# Altium integrated library National Semiconductor LDO.IntLib: 2675 symbols (part 3 of 65)
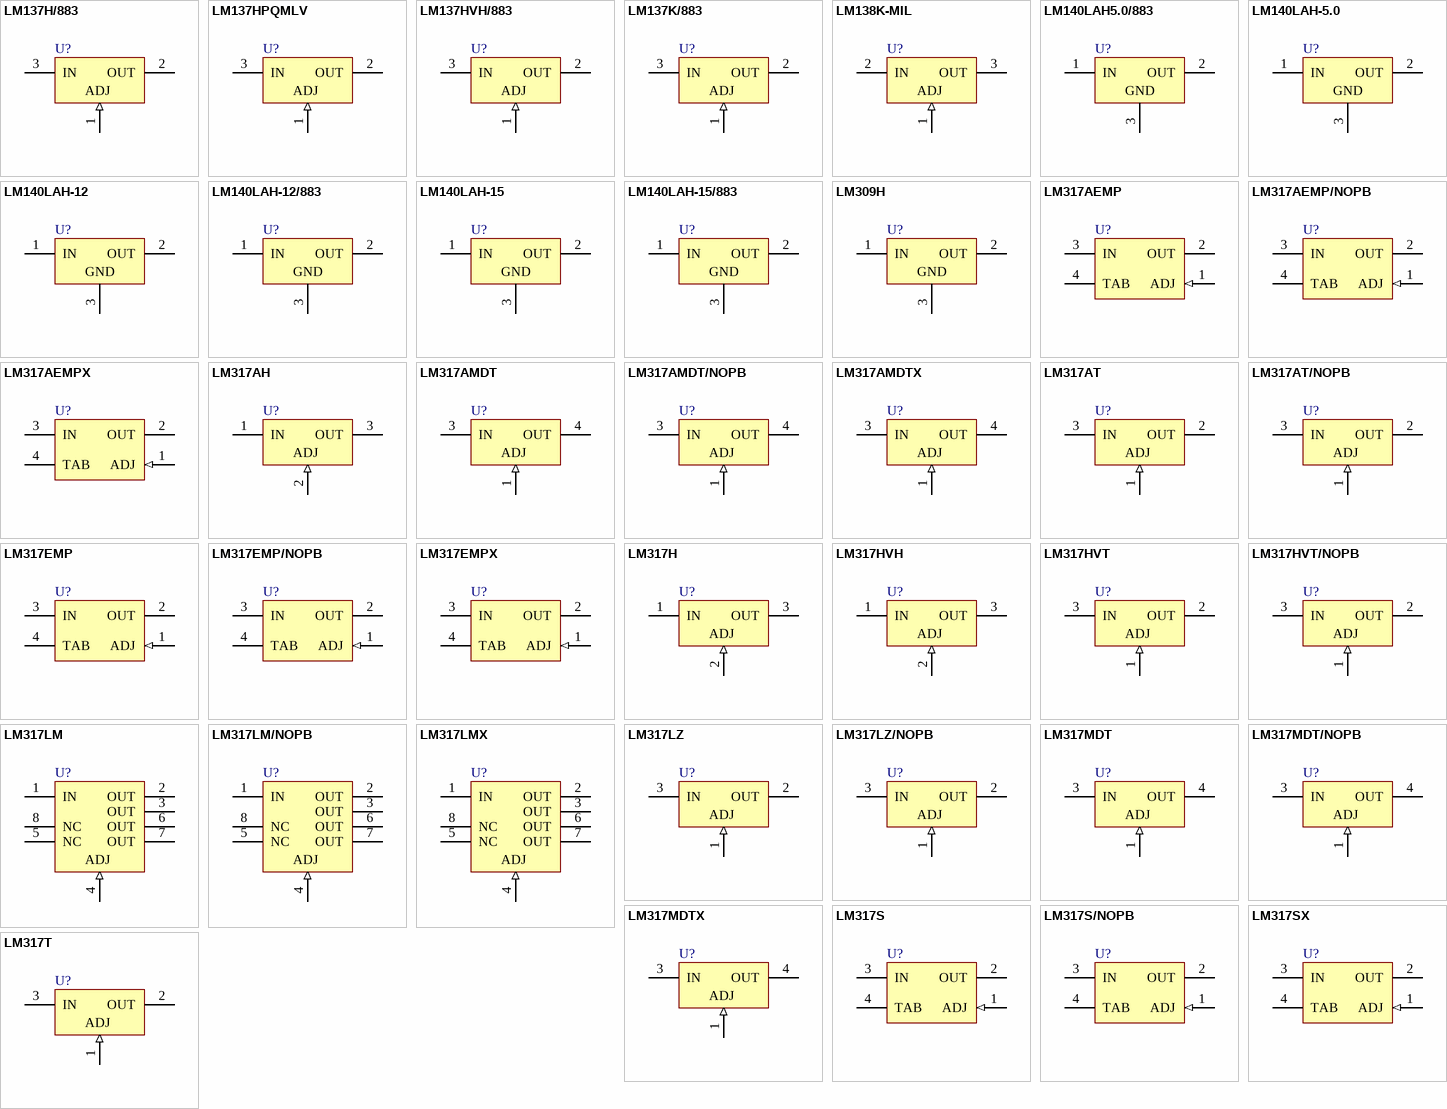
[diagram p69: symbols LM137H/883 to LM317T]

## LM317AMDT
designator U?
3-Terminal Adjustable Regulator, 3-pin TO-252; PartNumber: LM317AMDT; Manufacturer: National Semiconductor; PackageTopMarking: NSUZXYTT*LM317*AMDT; PowerWise: N; CompType: LDO IC; High-Reliability: Y; DatasheetVersion: Apr-2007; PackageVersion: revD, Feb-2009; PackageReference: TD03B; PackageDescription: TO252, Molded, Jedec, 6.8 x 6.10 x 2.30mm Body, 3 Lead, 2.28mm Pitch, Surface Mount; RoHS: N; PinCount: 3; Code_JEDEC: TO-252-AA; ComponentLink1Description: Manufacturer URL; ComponentLink1URL: http://www.national.com/; ComponentLink2Description: LM317 Datasheet; ComponentLink2URL: http://www.national.com/ds/LM/LM317.pdf; ComponentLink3Description: LM317 Web Page; ComponentLink3URL: http://www.national.com/pf/LM/LM317.html; ComponentLink4Description: TD03B Package Page; ComponentLink4URL: http://www.national.com/packaging/folders/td03b.html
footprint TD03B_N (D-PAK, 4-Leads, Body 6.1x6.6mm, Pitch 2.29mm, Lead Span 9.7mm, IPC Medium Density)
footprint TD03B_L (D-PAK, 4-Leads, Body 6.1x6.6mm, Pitch 2.29mm, Lead Span 9.7mm, IPC High Density)
footprint TD03B_M (D-PAK, 4-Leads, Body 6.1x6.6mm, Pitch 2.29mm, Lead Span 9.7mm, IPC Low Density)
pins: 1 ADJ (in), 3 IN (power), 4 OUT (power)

## LM317AMDT/NOPB
designator U?
3-Terminal Adjustable Regulator, 3-pin TO-252, Pb-Free; PartNumber: LM317AMDT/NOPB; Manufacturer: National Semiconductor; PackageTopMarking: NSUZXYTT*LM317*AMDT; PowerWise: N; CompType: LDO IC; High-Reliability: Y; DatasheetVersion: Apr-2007; PackageVersion: revD, Feb-2009; PackageReference: TD03B; PackageDescription: TO252, Molded, Jedec, 6.8 x 6.10 x 2.30mm Body, 3 Lead, 2.28mm Pitch, Surface Mount; RoHS: Y; PinCount: 3; Code_JEDEC: TO-252-AA; ComponentLink1Description: Manufacturer URL; ComponentLink1URL: http://www.national.com/; ComponentLink2Description: LM317 Datasheet; ComponentLink2URL: http://www.national.com/ds/LM/LM317.pdf; ComponentLink3Description: LM317 Web Page; ComponentLink3URL: http://www.national.com/pf/LM/LM317.html; ComponentLink4Description: TD03B Package Page; ComponentLink4URL: http://www.national.com/packaging/folders/td03b.html
footprint TD03B_N (D-PAK, 4-Leads, Body 6.1x6.6mm, Pitch 2.29mm, Lead Span 9.7mm, IPC Medium Density)
footprint TD03B_L (D-PAK, 4-Leads, Body 6.1x6.6mm, Pitch 2.29mm, Lead Span 9.7mm, IPC High Density)
footprint TD03B_M (D-PAK, 4-Leads, Body 6.1x6.6mm, Pitch 2.29mm, Lead Span 9.7mm, IPC Low Density)
pins: 1 ADJ (in), 3 IN (power), 4 OUT (power)

## LM317AMDTX
designator U?
3-Terminal Adjustable Regulator, 3-pin TO-252; PartNumber: LM317AMDTX; Manufacturer: National Semiconductor; PackageTopMarking: NSUZXYTT*LM317*AMDT; PowerWise: N; CompType: LDO IC; High-Reliability: Y; DatasheetVersion: Apr-2007; PackageVersion: revD, Feb-2009; PackageReference: TD03B; PackageDescription: TO252, Molded, Jedec, 6.8 x 6.10 x 2.30mm Body, 3 Lead, 2.28mm Pitch, Surface Mount; RoHS: N; PinCount: 3; Code_JEDEC: TO-252-AA; ComponentLink1Description: Manufacturer URL; ComponentLink1URL: http://www.national.com/; ComponentLink2Description: LM317 Datasheet; ComponentLink2URL: http://www.national.com/ds/LM/LM317.pdf; ComponentLink3Description: LM317 Web Page; ComponentLink3URL: http://www.national.com/pf/LM/LM317.html; ComponentLink4Description: TD03B Package Page; ComponentLink4URL: http://www.national.com/packaging/folders/td03b.html
footprint TD03B_N (D-PAK, 4-Leads, Body 6.1x6.6mm, Pitch 2.29mm, Lead Span 9.7mm, IPC Medium Density)
footprint TD03B_L (D-PAK, 4-Leads, Body 6.1x6.6mm, Pitch 2.29mm, Lead Span 9.7mm, IPC High Density)
footprint TD03B_M (D-PAK, 4-Leads, Body 6.1x6.6mm, Pitch 2.29mm, Lead Span 9.7mm, IPC Low Density)
pins: 1 ADJ (in), 3 IN (power), 4 OUT (power)

## LM317AT
designator U?
3-Terminal Adjustable Regulator, 3-pin TO-220; PartNumber: LM317AT; Manufacturer: National Semiconductor; PackageTopMarking: NSUZXYTTE#*LM317AT P+; PowerWise: N; CompType: LDO IC; High-Reliability: Y; DatasheetVersion: Apr-2007; PackageVersion: revL, Jan-1992; PackageReference: T03B; PackageDescription: TO-220, Molded, 3 Lead, Straight; RoHS: N; PinCount: 3; ComponentLink1Description: Manufacturer URL; ComponentLink1URL: http://www.national.com/; ComponentLink2Description: LM317 Datasheet; ComponentLink2URL: http://www.national.com/ds/LM/LM317.pdf; ComponentLink3Description: LM317 Web Page; ComponentLink3URL: http://www.national.com/pf/LM/LM317.html; ComponentLink4Description: T03B Package Page; ComponentLink4URL: http://www.national.com/packaging/folders/t03b.html
footprint T03B (TO, Thru-Hole, Vertical, Heatsink Mounted; 3 In-Line Leads; Pitch 2.54 mm)
pins: 1 ADJ (in), 2 OUT (power), 3 IN (power)

## LM317AT/NOPB
designator U?
3-Terminal Adjustable Regulator, 3-pin TO-220, Pb-Free; PartNumber: LM317AT/NOPB; Manufacturer: National Semiconductor; PackageTopMarking: NSUZXYTTE#*LM317AT P+; PowerWise: N; CompType: LDO IC; High-Reliability: Y; DatasheetVersion: Apr-2007; PackageVersion: revL, Jan-1992; PackageReference: T03B; PackageDescription: TO-220, Molded, 3 Lead, Straight; RoHS: Y; PinCount: 3; ComponentLink1Description: Manufacturer URL; ComponentLink1URL: http://www.national.com/; ComponentLink2Description: LM317 Datasheet; ComponentLink2URL: http://www.national.com/ds/LM/LM317.pdf; ComponentLink3Description: LM317 Web Page; ComponentLink3URL: http://www.national.com/pf/LM/LM317.html; ComponentLink4Description: T03B Package Page; ComponentLink4URL: http://www.national.com/packaging/folders/t03b.html
footprint T03B (TO, Thru-Hole, Vertical, Heatsink Mounted; 3 In-Line Leads; Pitch 2.54 mm)
pins: 1 ADJ (in), 2 OUT (power), 3 IN (power)

## LM317EMP
designator U?
3-Terminal Adjustable Regulator, 4-pin SOT-223; PartNumber: LM317EMP; Manufacturer: National Semiconductor; PackageTopMarking: XYTT*N01A; PowerWise: N; CompType: LDO IC; High-Reliability: Y; DatasheetVersion: Apr-2007; PackageVersion: revB, Apr-2003; PackageReference: MP04A; PackageDescription: Molded SOT-223, 6.50 x 3.56 x 1.6mm Body, 4 Lead, 2.3mm Pitch; RoHS: N; PinCount: 4; Code_JEDEC: TO-261-AA; Code_IPC: SOT223-4; ComponentLink1Description: Manufacturer URL; ComponentLink1URL: http://www.national.com/; ComponentLink2Description: LM317 Datasheet; ComponentLink2URL: http://www.national.com/ds/LM/LM317.pdf; ComponentLink3Description: LM317 Web Page; ComponentLink3URL: http://www.national.com/pf/LM/LM317.html; ComponentLink4Description: MP04A Package Page; ComponentLink4URL: http://www.national.com/packaging/folders/mp04a.html
footprint MP04A_N (SOT223, 4-Leads, Body 6.5x3.5mm, Pitch 2.3mm, Lead Span 7mm, IPC Medium Density)
footprint MP04A_L (SOT223, 4-Leads, Body 6.5x3.5mm, Pitch 2.3mm, Lead Span 7mm, IPC High Density)
footprint MP04A_M (SOT223, 4-Leads, Body 6.5x3.5mm, Pitch 2.3mm, Lead Span 7mm, IPC Low Density)
pins: 1 ADJ (in), 2 OUT (power), 3 IN (power), 4 TAB (power)

## LM317EMP/NOPB
designator U?
3-Terminal Adjustable Regulator, 4-pin SOT-223, Pb-Free; PartNumber: LM317EMP/NOPB; Manufacturer: National Semiconductor; PackageTopMarking: XYTT*N01A; PowerWise: N; CompType: LDO IC; High-Reliability: Y; DatasheetVersion: Apr-2007; PackageVersion: revB, Apr-2003; PackageReference: MP04A; PackageDescription: Molded SOT-223, 6.50 x 3.56 x 1.6mm Body, 4 Lead, 2.3mm Pitch; RoHS: Y; PinCount: 4; Code_JEDEC: TO-261-AA; Code_IPC: SOT223-4; ComponentLink1Description: Manufacturer URL; ComponentLink1URL: http://www.national.com/; ComponentLink2Description: LM317 Datasheet; ComponentLink2URL: http://www.national.com/ds/LM/LM317.pdf; ComponentLink3Description: LM317 Web Page; ComponentLink3URL: http://www.national.com/pf/LM/LM317.html; ComponentLink4Description: MP04A Package Page; ComponentLink4URL: http://www.national.com/packaging/folders/mp04a.html
footprint MP04A_N (SOT223, 4-Leads, Body 6.5x3.5mm, Pitch 2.3mm, Lead Span 7mm, IPC Medium Density)
footprint MP04A_L (SOT223, 4-Leads, Body 6.5x3.5mm, Pitch 2.3mm, Lead Span 7mm, IPC High Density)
footprint MP04A_M (SOT223, 4-Leads, Body 6.5x3.5mm, Pitch 2.3mm, Lead Span 7mm, IPC Low Density)
pins: 1 ADJ (in), 2 OUT (power), 3 IN (power), 4 TAB (power)

## LM317EMPX
designator U?
3-Terminal Adjustable Regulator, 4-pin SOT-223; PartNumber: LM317EMPX; Manufacturer: National Semiconductor; PackageTopMarking: XYTT*N01A; PowerWise: N; CompType: LDO IC; High-Reliability: Y; DatasheetVersion: Apr-2007; PackageVersion: revB, Apr-2003; PackageReference: MP04A; PackageDescription: Molded SOT-223, 6.50 x 3.56 x 1.6mm Body, 4 Lead, 2.3mm Pitch; RoHS: N; PinCount: 4; Code_JEDEC: TO-261-AA; Code_IPC: SOT223-4; ComponentLink1Description: Manufacturer URL; ComponentLink1URL: http://www.national.com/; ComponentLink2Description: LM317 Datasheet; ComponentLink2URL: http://www.national.com/ds/LM/LM317.pdf; ComponentLink3Description: LM317 Web Page; ComponentLink3URL: http://www.national.com/pf/LM/LM317.html; ComponentLink4Description: MP04A Package Page; ComponentLink4URL: http://www.national.com/packaging/folders/mp04a.html
footprint MP04A_N (SOT223, 4-Leads, Body 6.5x3.5mm, Pitch 2.3mm, Lead Span 7mm, IPC Medium Density)
footprint MP04A_L (SOT223, 4-Leads, Body 6.5x3.5mm, Pitch 2.3mm, Lead Span 7mm, IPC High Density)
footprint MP04A_M (SOT223, 4-Leads, Body 6.5x3.5mm, Pitch 2.3mm, Lead Span 7mm, IPC Low Density)
pins: 1 ADJ (in), 2 OUT (power), 3 IN (power), 4 TAB (power)

## LM317H
designator U?
3-Terminal Adjustable Regulator, 3-pin TO-39; PartNumber: LM317H; Manufacturer: National Semiconductor; PackageTopMarking: NSZXYTTE# LM317HP+; PowerWise: N; CompType: LDO IC; High-Reliability: Y; DatasheetVersion: Apr-2007; PackageVersion: revD, Feb-1995; PackageReference: H03A; PackageDescription: Metal Can, TO-39, 3 Lead, .200in Dia, P.C.; RoHS: N; PinCount: 3; Code_JEDEC: TO-39; ComponentLink1Description: Manufacturer URL; ComponentLink1URL: http://www.national.com/; ComponentLink2Description: LM317 Datasheet; ComponentLink2URL: http://www.national.com/ds/LM/LM317.pdf; ComponentLink3Description: LM317 Web Page; ComponentLink3URL: http://www.national.com/pf/LM/LM317.html; ComponentLink4Description: H03A Package Page; ComponentLink4URL: http://www.national.com/packaging/folders/h03a.html
footprint H03A (Can; 3 Leads; Pin Circle Dia. 5.08 mm; Lead Dia. 0.48 mm (max))
pins: 1 IN (power), 2 ADJ (in), 3 OUT (power)

## LM317HVH
designator U?
3-Terminal Adjustable Regulator, 3-pin TO-39; PartNumber: LM317HVH; Manufacturer: National Semiconductor; PackageTopMarking: NSZXYTTE# LM317HVHP+; PowerWise: N; CompType: LDO IC; High-Reliability: Y; DatasheetVersion: Apr-2000; PackageVersion: revD, Feb-1995; PackageReference: H03A; PackageDescription: Metal Can, TO-39, 3 Lead, .200in Dia, P.C.; RoHS: N; PinCount: 3; Code_JEDEC: TO-39; ComponentLink1Description: Manufacturer URL; ComponentLink1URL: http://www.national.com/; ComponentLink2Description: LM317HV Datasheet; ComponentLink2URL: http://www.national.com/ds/LM/LM317HV.pdf; ComponentLink3Description: LM317HV Web Page; ComponentLink3URL: http://www.national.com/pf/LM/LM317HV.html; ComponentLink4Description: H03A Package Page; ComponentLink4URL: http://www.national.com/packaging/folders/h03a.html
footprint H03A (Can; 3 Leads; Pin Circle Dia. 5.08 mm; Lead Dia. 0.48 mm (max))
pins: 1 IN (power), 2 ADJ (in), 3 OUT (power)

## LM317HVT
designator U?
3-Terminal Adjustable Regulator, 3-pin TO-220; PartNumber: LM317HVT; Manufacturer: National Semiconductor; PackageTopMarking: NSUZXYTTE#*LM317*HVT P+; PowerWise: N; CompType: LDO IC; High-Reliability: Y; DatasheetVersion: Apr-2000; PackageVersion: revL, Jan-1992; PackageReference: T03B; PackageDescription: TO-220, Molded, 3 Lead, Straight; RoHS: N; PinCount: 3; ComponentLink1Description: Manufacturer URL; ComponentLink1URL: http://www.national.com/; ComponentLink2Description: LM317HV Datasheet; ComponentLink2URL: http://www.national.com/ds/LM/LM317HV.pdf; ComponentLink3Description: LM317HV Web Page; ComponentLink3URL: http://www.national.com/pf/LM/LM317HV.html; ComponentLink4Description: T03B Package Page; ComponentLink4URL: http://www.national.com/packaging/folders/t03b.html
footprint T03B (TO, Thru-Hole, Vertical, Heatsink Mounted; 3 In-Line Leads; Pitch 2.54 mm)
pins: 1 ADJ (in), 2 OUT (power), 3 IN (power)

## LM317HVT/NOPB
designator U?
3-Terminal Adjustable Regulator, 3-pin TO-220, Pb-Free; PartNumber: LM317HVT/NOPB; Manufacturer: National Semiconductor; PackageTopMarking: NSUZXYTTE#*LM317*HVT P+; PowerWise: N; CompType: LDO IC; High-Reliability: Y; DatasheetVersion: Apr-2000; PackageVersion: revL, Jan-1992; PackageReference: T03B; PackageDescription: TO-220, Molded, 3 Lead, Straight; RoHS: Y; PinCount: 3; ComponentLink1Description: Manufacturer URL; ComponentLink1URL: http://www.national.com/; ComponentLink2Description: LM317HV Datasheet; ComponentLink2URL: http://www.national.com/ds/LM/LM317HV.pdf; ComponentLink3Description: LM317HV Web Page; ComponentLink3URL: http://www.national.com/pf/LM/LM317HV.html; ComponentLink4Description: T03B Package Page; ComponentLink4URL: http://www.national.com/packaging/folders/t03b.html
footprint T03B (TO, Thru-Hole, Vertical, Heatsink Mounted; 3 In-Line Leads; Pitch 2.54 mm)
pins: 1 ADJ (in), 2 OUT (power), 3 IN (power)

## LM317LM
designator U?
3-Terminal Adjustable Regulator, 8-pin Narrow SOIC; PartNumber: LM317LM; Manufacturer: National Semiconductor; PackageTopMarking: NSZXTT*LM317*LM; PowerWise: N; CompType: LDO IC; High-Reliability: Y; DatasheetVersion: Apr-2008; PackageVersion: revM, May-2009; PackageReference: M08A; PackageDescription: SOIC Narrow, 4.9 x 3.9 x 1.45mm, 8 Lead, 1.27mm Pitch; RoHS: N; PinCount: 8; Code_JEDEC: MS-012-AA; Code_IPC: SOIC127P600-8; ComponentLink1Description: Manufacturer URL; ComponentLink1URL: http://www.national.com/; ComponentLink2Description: LM317L Datasheet; ComponentLink2URL: http://www.national.com/ds/LM/LM317L.pdf; ComponentLink3Description: LM317L Web Page; ComponentLink3URL: http://www.national.com/pf/LM/LM317L.html; ComponentLink4Description: M08A Package Page; ComponentLink4URL: http://www.national.com/packaging/folders/m08a.html
footprint M08A_N (SOIC, 8-Leads, Body 4.9x3.9mm, Pitch 1.27mm, IPC Medium Density)
footprint M08A_L (SOIC, 8-Leads, Body 4.9x3.9mm, Pitch 1.27mm, IPC High Density)
footprint M08A_M (SOIC, 8-Leads, Body 4.9x3.9mm, Pitch 1.27mm, IPC Low Density)
pins: 1 IN (power), 2 OUT (power), 3 OUT (power), 4 ADJ (in), 5 NC, 6 OUT (power), 7 OUT (power), 8 NC

## LM317LM/NOPB
designator U?
3-Terminal Adjustable Regulator, 8-pin Narrow SOIC, Pb-Free; PartNumber: LM317LM/NOPB; Manufacturer: National Semiconductor; PackageTopMarking: NSZXTT*LM317*LM; PowerWise: N; CompType: LDO IC; High-Reliability: Y; DatasheetVersion: Apr-2008; PackageVersion: revM, May-2009; PackageReference: M08A; PackageDescription: SOIC Narrow, 4.9 x 3.9 x 1.45mm, 8 Lead, 1.27mm Pitch; RoHS: Y; PinCount: 8; Code_JEDEC: MS-012-AA; Code_IPC: SOIC127P600-8; ComponentLink1Description: Manufacturer URL; ComponentLink1URL: http://www.national.com/; ComponentLink2Description: LM317L Datasheet; ComponentLink2URL: http://www.national.com/ds/LM/LM317L.pdf; ComponentLink3Description: LM317L Web Page; ComponentLink3URL: http://www.national.com/pf/LM/LM317L.html; ComponentLink4Description: M08A Package Page; ComponentLink4URL: http://www.national.com/packaging/folders/m08a.html
footprint M08A_N (SOIC, 8-Leads, Body 4.9x3.9mm, Pitch 1.27mm, IPC Medium Density)
footprint M08A_L (SOIC, 8-Leads, Body 4.9x3.9mm, Pitch 1.27mm, IPC High Density)
footprint M08A_M (SOIC, 8-Leads, Body 4.9x3.9mm, Pitch 1.27mm, IPC Low Density)
pins: 1 IN (power), 2 OUT (power), 3 OUT (power), 4 ADJ (in), 5 NC, 6 OUT (power), 7 OUT (power), 8 NC

## LM317LMX
designator U?
3-Terminal Adjustable Regulator, 8-pin Narrow SOIC; PartNumber: LM317LMX; Manufacturer: National Semiconductor; PackageTopMarking: NSZXTT*LM317*LM; PowerWise: N; CompType: LDO IC; High-Reliability: Y; DatasheetVersion: Apr-2008; PackageVersion: revM, May-2009; PackageReference: M08A; PackageDescription: SOIC Narrow, 4.9 x 3.9 x 1.45mm, 8 Lead, 1.27mm Pitch; RoHS: N; PinCount: 8; Code_JEDEC: MS-012-AA; Code_IPC: SOIC127P600-8; ComponentLink1Description: Manufacturer URL; ComponentLink1URL: http://www.national.com/; ComponentLink2Description: LM317L Datasheet; ComponentLink2URL: http://www.national.com/ds/LM/LM317L.pdf; ComponentLink3Description: LM317L Web Page; ComponentLink3URL: http://www.national.com/pf/LM/LM317L.html; ComponentLink4Description: M08A Package Page; ComponentLink4URL: http://www.national.com/packaging/folders/m08a.html
footprint M08A_N (SOIC, 8-Leads, Body 4.9x3.9mm, Pitch 1.27mm, IPC Medium Density)
footprint M08A_L (SOIC, 8-Leads, Body 4.9x3.9mm, Pitch 1.27mm, IPC High Density)
footprint M08A_M (SOIC, 8-Leads, Body 4.9x3.9mm, Pitch 1.27mm, IPC Low Density)
pins: 1 IN (power), 2 OUT (power), 3 OUT (power), 4 ADJ (in), 5 NC, 6 OUT (power), 7 OUT (power), 8 NC

## LM317LZ
designator U?
3-Terminal Adjustable Regulator, 3-pin TO-92; PartNumber: LM317LZ; Manufacturer: National Semiconductor; PackageTopMarking: NSXYTT*LM317*LZ; PowerWise: N; CompType: LDO IC; High-Reliability: Y; DatasheetVersion: Apr-2008; PackageVersion: revG, Sep-2000; PackageReference: Z03A; PackageDescription: TO-92, Molded, 3 Lead; RoHS: N; PinCount: 3; Code_JEDEC: TO-226-AA; ComponentLink1Description: Manufacturer URL; ComponentLink1URL: http://www.national.com/; ComponentLink2Description: LM317L Datasheet; ComponentLink2URL: http://www.national.com/ds/LM/LM317L.pdf; ComponentLink3Description: LM317L Web Page; ComponentLink3URL: http://www.national.com/pf/LM/LM317L.html; ComponentLink4Description: Z03A Package Page; ComponentLink4URL: http://www.national.com/packaging/folders/z03a.html
footprint Z03A (TO, Flat Index; 3 In-Line, Axial Leads; Body Dia. 5mm; Leads 0.55 x 0.50 mm (max))
pins: 1 ADJ (in), 2 OUT (power), 3 IN (power)

## LM317LZ/NOPB
designator U?
3-Terminal Adjustable Regulator, 3-pin TO-92, Pb-Free; PartNumber: LM317LZ/NOPB; Manufacturer: National Semiconductor; PackageTopMarking: NSXYTT*LM317*LZ; PowerWise: N; CompType: LDO IC; High-Reliability: Y; DatasheetVersion: Apr-2008; PackageVersion: revG, Sep-2000; PackageReference: Z03A; PackageDescription: TO-92, Molded, 3 Lead; RoHS: Y; PinCount: 3; Code_JEDEC: TO-226-AA; ComponentLink1Description: Manufacturer URL; ComponentLink1URL: http://www.national.com/; ComponentLink2Description: LM317L Datasheet; ComponentLink2URL: http://www.national.com/ds/LM/LM317L.pdf; ComponentLink3Description: LM317L Web Page; ComponentLink3URL: http://www.national.com/pf/LM/LM317L.html; ComponentLink4Description: Z03A Package Page; ComponentLink4URL: http://www.national.com/packaging/folders/z03a.html
footprint Z03A (TO, Flat Index; 3 In-Line, Axial Leads; Body Dia. 5mm; Leads 0.55 x 0.50 mm (max))
pins: 1 ADJ (in), 2 OUT (power), 3 IN (power)

## LM317MDT
designator U?
3-Terminal Adjustable Regulator, 3-pin TO-252; PartNumber: LM317MDT; Manufacturer: National Semiconductor; PackageTopMarking: NSUZXYTT*LM317*MDT; PowerWise: N; CompType: LDO IC; High-Reliability: Y; DatasheetVersion: Apr-2007; PackageVersion: revD, Feb-2009; PackageReference: TD03B; PackageDescription: TO252, Molded, Jedec, 6.8 x 6.10 x 2.30mm Body, 3 Lead, 2.28mm Pitch, Surface Mount; RoHS: N; PinCount: 3; Code_JEDEC: TO-252-AA; ComponentLink1Description: Manufacturer URL; ComponentLink1URL: http://www.national.com/; ComponentLink2Description: LM317 Datasheet; ComponentLink2URL: http://www.national.com/ds/LM/LM317.pdf; ComponentLink3Description: LM317 Web Page; ComponentLink3URL: http://www.national.com/pf/LM/LM317.html; ComponentLink4Description: TD03B Package Page; ComponentLink4URL: http://www.national.com/packaging/folders/td03b.html
footprint TD03B_N (D-PAK, 4-Leads, Body 6.1x6.6mm, Pitch 2.29mm, Lead Span 9.7mm, IPC Medium Density)
footprint TD03B_L (D-PAK, 4-Leads, Body 6.1x6.6mm, Pitch 2.29mm, Lead Span 9.7mm, IPC High Density)
footprint TD03B_M (D-PAK, 4-Leads, Body 6.1x6.6mm, Pitch 2.29mm, Lead Span 9.7mm, IPC Low Density)
pins: 1 ADJ (in), 3 IN (power), 4 OUT (power)

## LM317MDT/NOPB
designator U?
3-Terminal Adjustable Regulator, 3-pin TO-252, Pb-Free; PartNumber: LM317MDT/NOPB; Manufacturer: National Semiconductor; PackageTopMarking: NSUZXYTT*LM317*MDT; PowerWise: N; CompType: LDO IC; High-Reliability: Y; DatasheetVersion: Apr-2007; PackageVersion: revD, Feb-2009; PackageReference: TD03B; PackageDescription: TO252, Molded, Jedec, 6.8 x 6.10 x 2.30mm Body, 3 Lead, 2.28mm Pitch, Surface Mount; RoHS: Y; PinCount: 3; Code_JEDEC: TO-252-AA; ComponentLink1Description: Manufacturer URL; ComponentLink1URL: http://www.national.com/; ComponentLink2Description: LM317 Datasheet; ComponentLink2URL: http://www.national.com/ds/LM/LM317.pdf; ComponentLink3Description: LM317 Web Page; ComponentLink3URL: http://www.national.com/pf/LM/LM317.html; ComponentLink4Description: TD03B Package Page; ComponentLink4URL: http://www.national.com/packaging/folders/td03b.html
footprint TD03B_N (D-PAK, 4-Leads, Body 6.1x6.6mm, Pitch 2.29mm, Lead Span 9.7mm, IPC Medium Density)
footprint TD03B_L (D-PAK, 4-Leads, Body 6.1x6.6mm, Pitch 2.29mm, Lead Span 9.7mm, IPC High Density)
footprint TD03B_M (D-PAK, 4-Leads, Body 6.1x6.6mm, Pitch 2.29mm, Lead Span 9.7mm, IPC Low Density)
pins: 1 ADJ (in), 3 IN (power), 4 OUT (power)

## LM317MDTX
designator U?
3-Terminal Adjustable Regulator, 3-pin TO-252; PartNumber: LM317MDTX; Manufacturer: National Semiconductor; PackageTopMarking: NSUZXYTT*LM317*MDT; PowerWise: N; CompType: LDO IC; High-Reliability: Y; DatasheetVersion: Apr-2007; PackageVersion: revD, Feb-2009; PackageReference: TD03B; PackageDescription: TO252, Molded, Jedec, 6.8 x 6.10 x 2.30mm Body, 3 Lead, 2.28mm Pitch, Surface Mount; RoHS: N; PinCount: 3; Code_JEDEC: TO-252-AA; ComponentLink1Description: Manufacturer URL; ComponentLink1URL: http://www.national.com/; ComponentLink2Description: LM317 Datasheet; ComponentLink2URL: http://www.national.com/ds/LM/LM317.pdf; ComponentLink3Description: LM317 Web Page; ComponentLink3URL: http://www.national.com/pf/LM/LM317.html; ComponentLink4Description: TD03B Package Page; ComponentLink4URL: http://www.national.com/packaging/folders/td03b.html
footprint TD03B_N (D-PAK, 4-Leads, Body 6.1x6.6mm, Pitch 2.29mm, Lead Span 9.7mm, IPC Medium Density)
footprint TD03B_L (D-PAK, 4-Leads, Body 6.1x6.6mm, Pitch 2.29mm, Lead Span 9.7mm, IPC High Density)
footprint TD03B_M (D-PAK, 4-Leads, Body 6.1x6.6mm, Pitch 2.29mm, Lead Span 9.7mm, IPC Low Density)
pins: 1 ADJ (in), 3 IN (power), 4 OUT (power)

## LM317S
designator U?
3-Terminal Adjustable Regulator, 3-pin TO-263; PartNumber: LM317S; Manufacturer: National Semiconductor; PackageTopMarking: NSUZXYTTE#*LM317S*P+; PowerWise: N; CompType: LDO IC; High-Reliability: Y; DatasheetVersion: Apr-2007; PackageVersion: revF, Apr-2005; PackageReference: TS3B; PackageDescription: TO-263, Molded, .400 x .390 x .180in, 3 Lead, .1in Pitch, Surface Mount; RoHS: N; PinCount: 3; Code_JEDEC: MO-169-AA; ComponentLink1Description: Manufacturer URL; ComponentLink1URL: http://www.national.com/; ComponentLink2Description: LM317 Datasheet; ComponentLink2URL: http://www.national.com/ds/LM/LM317.pdf; ComponentLink3Description: LM317 Web Page; ComponentLink3URL: http://www.national.com/pf/LM/LM317.html; ComponentLink4Description: TS3B Package Page; ComponentLink4URL: http://www.national.com/packaging/folders/ts3b.html
footprint TS3B_N (D2-PAK, 4-Leads, Body 8.6x10.2mm, Pitch 2.54mm, Lead Span 14.2mm, IPC Medium Density)
footprint TS3B_L (D2-PAK, 4-Leads, Body 8.6x10.2mm, Pitch 2.54mm, Lead Span 14.2mm, IPC High Density)
footprint TS3B_M (D2-PAK, 4-Leads, Body 8.6x10.2mm, Pitch 2.54mm, Lead Span 14.2mm, IPC Low Density)
pins: 1 ADJ (in), 2 OUT (power), 3 IN (power), 4 TAB (power)

## LM317S/NOPB
designator U?
3-Terminal Adjustable Regulator, 3-pin TO-263, Pb-Free; PartNumber: LM317S/NOPB; Manufacturer: National Semiconductor; PackageTopMarking: NSUZXYTTE#*LM317S*P+; PowerWise: N; CompType: LDO IC; High-Reliability: Y; DatasheetVersion: Apr-2007; PackageVersion: revF, Apr-2005; PackageReference: TS3B; PackageDescription: TO-263, Molded, .400 x .390 x .180in, 3 Lead, .1in Pitch, Surface Mount; RoHS: Y; PinCount: 3; Code_JEDEC: MO-169-AA; ComponentLink1Description: Manufacturer URL; ComponentLink1URL: http://www.national.com/; ComponentLink2Description: LM317 Datasheet; ComponentLink2URL: http://www.national.com/ds/LM/LM317.pdf; ComponentLink3Description: LM317 Web Page; ComponentLink3URL: http://www.national.com/pf/LM/LM317.html; ComponentLink4Description: TS3B Package Page; ComponentLink4URL: http://www.national.com/packaging/folders/ts3b.html
footprint TS3B_N (D2-PAK, 4-Leads, Body 8.6x10.2mm, Pitch 2.54mm, Lead Span 14.2mm, IPC Medium Density)
footprint TS3B_L (D2-PAK, 4-Leads, Body 8.6x10.2mm, Pitch 2.54mm, Lead Span 14.2mm, IPC High Density)
footprint TS3B_M (D2-PAK, 4-Leads, Body 8.6x10.2mm, Pitch 2.54mm, Lead Span 14.2mm, IPC Low Density)
pins: 1 ADJ (in), 2 OUT (power), 3 IN (power), 4 TAB (power)

## LM317SX
designator U?
3-Terminal Adjustable Regulator, 3-pin TO-263; PartNumber: LM317SX; Manufacturer: National Semiconductor; PackageTopMarking: NSUZXYTTE#*LM317S*P+; PowerWise: N; CompType: LDO IC; High-Reliability: Y; DatasheetVersion: Apr-2007; PackageVersion: revF, Apr-2005; PackageReference: TS3B; PackageDescription: TO-263, Molded, .400 x .390 x .180in, 3 Lead, .1in Pitch, Surface Mount; RoHS: N; PinCount: 3; Code_JEDEC: MO-169-AA; ComponentLink1Description: Manufacturer URL; ComponentLink1URL: http://www.national.com/; ComponentLink2Description: LM317 Datasheet; ComponentLink2URL: http://www.national.com/ds/LM/LM317.pdf; ComponentLink3Description: LM317 Web Page; ComponentLink3URL: http://www.national.com/pf/LM/LM317.html; ComponentLink4Description: TS3B Package Page; ComponentLink4URL: http://www.national.com/packaging/folders/ts3b.html
footprint TS3B_N (D2-PAK, 4-Leads, Body 8.6x10.2mm, Pitch 2.54mm, Lead Span 14.2mm, IPC Medium Density)
footprint TS3B_L (D2-PAK, 4-Leads, Body 8.6x10.2mm, Pitch 2.54mm, Lead Span 14.2mm, IPC High Density)
footprint TS3B_M (D2-PAK, 4-Leads, Body 8.6x10.2mm, Pitch 2.54mm, Lead Span 14.2mm, IPC Low Density)
pins: 1 ADJ (in), 2 OUT (power), 3 IN (power), 4 TAB (power)

## LM317T
designator U?
3-Terminal Adjustable Regulator, 3-pin TO-220; PartNumber: LM317T; Manufacturer: National Semiconductor; PackageTopMarking: NSUZXYTTE#*LM317T P+; PowerWise: N; CompType: LDO IC; High-Reliability: Y; DatasheetVersion: Apr-2007; PackageVersion: revL, Jan-1992; PackageReference: T03B; PackageDescription: TO-220, Molded, 3 Lead, Straight; RoHS: N; PinCount: 3; ComponentLink1Description: Manufacturer URL; ComponentLink1URL: http://www.national.com/; ComponentLink2Description: LM317 Datasheet; ComponentLink2URL: http://www.national.com/ds/LM/LM317.pdf; ComponentLink3Description: LM317 Web Page; ComponentLink3URL: http://www.national.com/pf/LM/LM317.html; ComponentLink4Description: T03B Package Page; ComponentLink4URL: http://www.national.com/packaging/folders/t03b.html
footprint T03B (TO, Thru-Hole, Vertical, Heatsink Mounted; 3 In-Line Leads; Pitch 2.54 mm)
pins: 1 ADJ (in), 2 OUT (power), 3 IN (power)

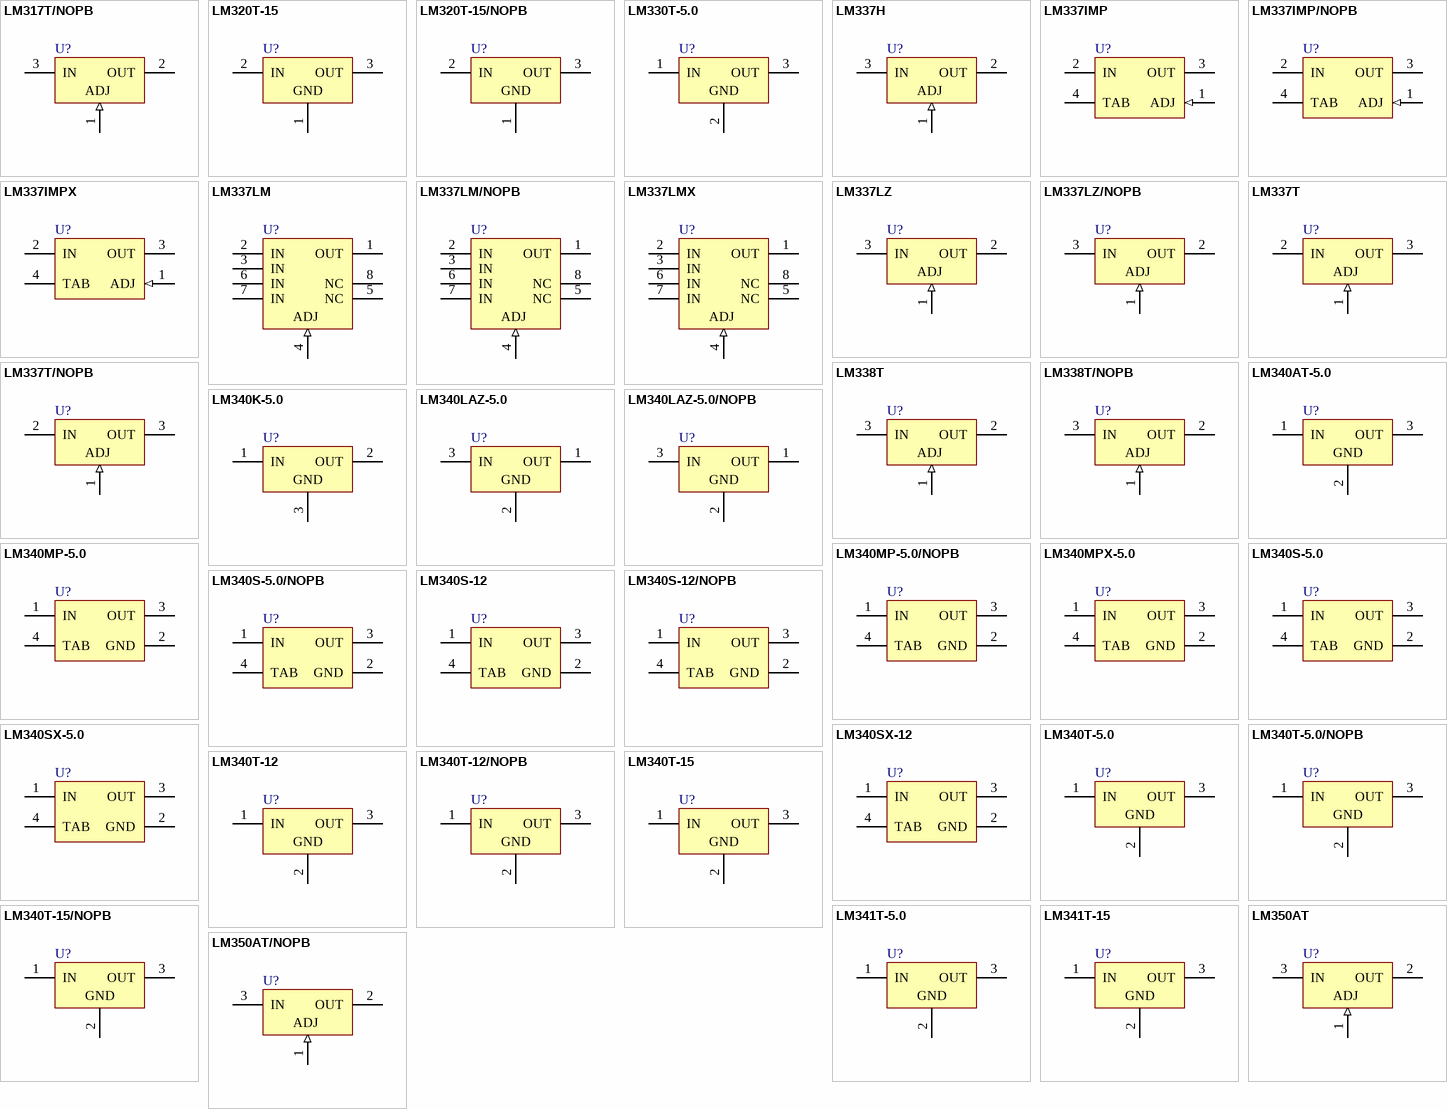
[diagram p3: symbols LM317T/NOPB to LM350AT/NOPB]

## LM317T/NOPB
designator U?
3-Terminal Adjustable Regulator, 3-pin TO-220, Pb-Free; PartNumber: LM317T/NOPB; Manufacturer: National Semiconductor; PackageTopMarking: NSUZXYTTE#*LM317T P+; PowerWise: N; CompType: LDO IC; High-Reliability: Y; DatasheetVersion: Apr-2007; PackageVersion: revL, Jan-1992; PackageReference: T03B; PackageDescription: TO-220, Molded, 3 Lead, Straight; RoHS: Y; PinCount: 3; ComponentLink1Description: Manufacturer URL; ComponentLink1URL: http://www.national.com/; ComponentLink2Description: LM317 Datasheet; ComponentLink2URL: http://www.national.com/ds/LM/LM317.pdf; ComponentLink3Description: LM317 Web Page; ComponentLink3URL: http://www.national.com/pf/LM/LM317.html; ComponentLink4Description: T03B Package Page; ComponentLink4URL: http://www.national.com/packaging/folders/t03b.html
footprint T03B (TO, Thru-Hole, Vertical, Heatsink Mounted; 3 In-Line Leads; Pitch 2.54 mm)
pins: 1 ADJ (in), 2 OUT (power), 3 IN (power)

## LM320T-15
designator U?
Series 3-Terminal Negative Regulators, 3-pin TO-220; PartNumber: LM320T-15; Manufacturer: National Semiconductor; PackageTopMarking: NSUZXYTTE#*LM320T*-15 P+; PowerWise: N; CompType: LDO IC; High-Reliability: Y; DatasheetVersion: Nov-2007; PackageVersion: revL, Jan-1992; PackageReference: T03B; PackageDescription: TO-220, Molded, 3 Lead, Straight; RoHS: N; PinCount: 3; ComponentLink1Description: Manufacturer URL; ComponentLink1URL: http://www.national.com/; ComponentLink2Description: LM320 Datasheet; ComponentLink2URL: http://www.national.com/ds/LM/LM320.pdf; ComponentLink3Description: LM320 Web Page; ComponentLink3URL: http://www.national.com/pf/LM/LM320.html; ComponentLink4Description: T03B Package Page; ComponentLink4URL: http://www.national.com/packaging/folders/t03b.html
footprint T03B (TO, Thru-Hole, Vertical, Heatsink Mounted; 3 In-Line Leads; Pitch 2.54 mm)
pins: 1 GND (power), 2 IN (power), 3 OUT (power)

## LM320T-15/NOPB
designator U?
Series 3-Terminal Negative Regulators, 3-pin TO-220, Pb-Free; PartNumber: LM320T-15/NOPB; Manufacturer: National Semiconductor; PackageTopMarking: NSUZXYTTE#*LM320T*-15 P+; PowerWise: N; CompType: LDO IC; High-Reliability: Y; DatasheetVersion: Nov-2007; PackageVersion: revL, Jan-1992; PackageReference: T03B; PackageDescription: TO-220, Molded, 3 Lead, Straight; RoHS: Y; PinCount: 3; ComponentLink1Description: Manufacturer URL; ComponentLink1URL: http://www.national.com/; ComponentLink2Description: LM320 Datasheet; ComponentLink2URL: http://www.national.com/ds/LM/LM320.pdf; ComponentLink3Description: LM320 Web Page; ComponentLink3URL: http://www.national.com/pf/LM/LM320.html; ComponentLink4Description: T03B Package Page; ComponentLink4URL: http://www.national.com/packaging/folders/t03b.html
footprint T03B (TO, Thru-Hole, Vertical, Heatsink Mounted; 3 In-Line Leads; Pitch 2.54 mm)
pins: 1 GND (power), 2 IN (power), 3 OUT (power)

## LM330T-5.0
designator U?
3-Terminal Positive Regulator, 3-pin TO-220; PartNumber: LM330T-5.0; Manufacturer: National Semiconductor; PackageTopMarking: NSUZXYTTE#*LM330T*-5.0; PowerWise: N; CompType: LDO IC; High-Reliability: Y; DatasheetVersion: May-1998; PackageVersion: revL, Jan-1992; PackageReference: T03B; PackageDescription: TO-220, Molded, 3 Lead, Straight; RoHS: N; PinCount: 3; ComponentLink1Description: Manufacturer URL; ComponentLink1URL: http://www.national.com/; ComponentLink2Description: LM330 Datasheet; ComponentLink2URL: http://www.national.com/ds/LM/LM330.pdf; ComponentLink3Description: LM330 Web Page; ComponentLink3URL: http://www.national.com/pf/LM/LM330.html; ComponentLink4Description: T03B Package Page; ComponentLink4URL: http://www.national.com/packaging/folders/t03b.html
footprint T03B (TO, Thru-Hole, Vertical, Heatsink Mounted; 3 In-Line Leads; Pitch 2.54 mm)
pins: 1 IN (power), 2 GND (power), 3 OUT (power)

## LM337H
designator U?
3-Terminal Adjustable Negative Regulator, 3-pin TO-39; PartNumber: LM337H; Manufacturer: National Semiconductor; PackageTopMarking: NSZXYTTE# LM337H; PowerWise: N; CompType: LDO IC; High-Reliability: Y; DatasheetVersion: Nov-2004; PackageVersion: revD, Feb-1995; PackageReference: H03A; PackageDescription: Metal Can, TO-39, 3 Lead, .200in Dia, P.C.; RoHS: N; PinCount: 3; Code_JEDEC: TO-39; ComponentLink1Description: Manufacturer URL; ComponentLink1URL: http://www.national.com/; ComponentLink2Description: LM337 Datasheet; ComponentLink2URL: http://www.national.com/ds/LM/LM337.pdf; ComponentLink3Description: LM337 Web Page; ComponentLink3URL: http://www.national.com/pf/LM/LM337.html; ComponentLink4Description: H03A Package Page; ComponentLink4URL: http://www.national.com/packaging/folders/h03a.html
footprint H03A (Can; 3 Leads; Pin Circle Dia. 5.08 mm; Lead Dia. 0.48 mm (max))
pins: 1 ADJ (in), 2 OUT (power), 3 IN (power)

## LM337IMP
designator U?
3-Terminal Adjustable Negative Regulator, 4-pin SOT-223; PartNumber: LM337IMP; Manufacturer: National Semiconductor; PackageTopMarking: XYTT*N02A; PowerWise: N; CompType: LDO IC; High-Reliability: Y; DatasheetVersion: Nov-2004; PackageVersion: revB, Apr-2003; PackageReference: MP04A; PackageDescription: Molded SOT-223, 6.50 x 3.56 x 1.6mm Body, 4 Lead, 2.3mm Pitch; RoHS: N; PinCount: 4; Code_JEDEC: TO-261-AA; Code_IPC: SOT223-4; ComponentLink1Description: Manufacturer URL; ComponentLink1URL: http://www.national.com/; ComponentLink2Description: LM337 Datasheet; ComponentLink2URL: http://www.national.com/ds/LM/LM337.pdf; ComponentLink3Description: LM337 Web Page; ComponentLink3URL: http://www.national.com/pf/LM/LM337.html; ComponentLink4Description: MP04A Package Page; ComponentLink4URL: http://www.national.com/packaging/folders/mp04a.html
footprint MP04A_N (SOT223, 4-Leads, Body 6.5x3.5mm, Pitch 2.3mm, Lead Span 7mm, IPC Medium Density)
footprint MP04A_L (SOT223, 4-Leads, Body 6.5x3.5mm, Pitch 2.3mm, Lead Span 7mm, IPC High Density)
footprint MP04A_M (SOT223, 4-Leads, Body 6.5x3.5mm, Pitch 2.3mm, Lead Span 7mm, IPC Low Density)
pins: 1 ADJ (in), 2 IN (power), 3 OUT (power), 4 TAB (power)

## LM337IMP/NOPB
designator U?
3-Terminal Adjustable Negative Regulator, 4-pin SOT-223, Pb-Free; PartNumber: LM337IMP/NOPB; Manufacturer: National Semiconductor; PackageTopMarking: XYTT*N02A; PowerWise: N; CompType: LDO IC; High-Reliability: Y; DatasheetVersion: Nov-2004; PackageVersion: revB, Apr-2003; PackageReference: MP04A; PackageDescription: Molded SOT-223, 6.50 x 3.56 x 1.6mm Body, 4 Lead, 2.3mm Pitch; RoHS: Y; PinCount: 4; Code_JEDEC: TO-261-AA; Code_IPC: SOT223-4; ComponentLink1Description: Manufacturer URL; ComponentLink1URL: http://www.national.com/; ComponentLink2Description: LM337 Datasheet; ComponentLink2URL: http://www.national.com/ds/LM/LM337.pdf; ComponentLink3Description: LM337 Web Page; ComponentLink3URL: http://www.national.com/pf/LM/LM337.html; ComponentLink4Description: MP04A Package Page; ComponentLink4URL: http://www.national.com/packaging/folders/mp04a.html
footprint MP04A_N (SOT223, 4-Leads, Body 6.5x3.5mm, Pitch 2.3mm, Lead Span 7mm, IPC Medium Density)
footprint MP04A_L (SOT223, 4-Leads, Body 6.5x3.5mm, Pitch 2.3mm, Lead Span 7mm, IPC High Density)
footprint MP04A_M (SOT223, 4-Leads, Body 6.5x3.5mm, Pitch 2.3mm, Lead Span 7mm, IPC Low Density)
pins: 1 ADJ (in), 2 IN (power), 3 OUT (power), 4 TAB (power)

## LM337IMPX
designator U?
3-Terminal Adjustable Negative Regulator, 4-pin SOT-223; PartNumber: LM337IMPX; Manufacturer: National Semiconductor; PackageTopMarking: XYTT*N02A; PowerWise: N; CompType: LDO IC; High-Reliability: Y; DatasheetVersion: Nov-2004; PackageVersion: revB, Apr-2003; PackageReference: MP04A; PackageDescription: Molded SOT-223, 6.50 x 3.56 x 1.6mm Body, 4 Lead, 2.3mm Pitch; RoHS: N; PinCount: 4; Code_JEDEC: TO-261-AA; Code_IPC: SOT223-4; ComponentLink1Description: Manufacturer URL; ComponentLink1URL: http://www.national.com/; ComponentLink2Description: LM337 Datasheet; ComponentLink2URL: http://www.national.com/ds/LM/LM337.pdf; ComponentLink3Description: LM337 Web Page; ComponentLink3URL: http://www.national.com/pf/LM/LM337.html; ComponentLink4Description: MP04A Package Page; ComponentLink4URL: http://www.national.com/packaging/folders/mp04a.html
footprint MP04A_N (SOT223, 4-Leads, Body 6.5x3.5mm, Pitch 2.3mm, Lead Span 7mm, IPC Medium Density)
footprint MP04A_L (SOT223, 4-Leads, Body 6.5x3.5mm, Pitch 2.3mm, Lead Span 7mm, IPC High Density)
footprint MP04A_M (SOT223, 4-Leads, Body 6.5x3.5mm, Pitch 2.3mm, Lead Span 7mm, IPC Low Density)
pins: 1 ADJ (in), 2 IN (power), 3 OUT (power), 4 TAB (power)

## LM337LM
designator U?
3-Terminal Adjustable Regulator, 8-pin Narrow SOIC; PartNumber: LM337LM; Manufacturer: National Semiconductor; PackageTopMarking: NSZXTT*LM337*LM; PowerWise: N; CompType: LDO IC; High-Reliability: Y; DatasheetVersion: Jun-2005; PackageVersion: revM, May-2009; PackageReference: M08A; PackageDescription: SOIC Narrow, 4.9 x 3.9 x 1.45mm, 8 Lead, 1.27mm Pitch; RoHS: N; PinCount: 8; Code_JEDEC: MS-012-AA; Code_IPC: SOIC127P600-8; ComponentLink1Description: Manufacturer URL; ComponentLink1URL: http://www.national.com/; ComponentLink2Description: LM337L Datasheet; ComponentLink2URL: http://www.national.com/ds/LM/LM337L.pdf; ComponentLink3Description: LM337L Web Page; ComponentLink3URL: http://www.national.com/pf/LM/LM337L.html; ComponentLink4Description: M08A Package Page; ComponentLink4URL: http://www.national.com/packaging/folders/m08a.html
footprint M08A_N (SOIC, 8-Leads, Body 4.9x3.9mm, Pitch 1.27mm, IPC Medium Density)
footprint M08A_L (SOIC, 8-Leads, Body 4.9x3.9mm, Pitch 1.27mm, IPC High Density)
footprint M08A_M (SOIC, 8-Leads, Body 4.9x3.9mm, Pitch 1.27mm, IPC Low Density)
pins: 1 OUT (power), 2 IN (power), 3 IN (power), 4 ADJ (in), 5 NC, 6 IN (power), 7 IN (power), 8 NC

## LM337LM/NOPB
designator U?
3-Terminal Adjustable Regulator, 8-pin Narrow SOIC, Pb-Free; PartNumber: LM337LM/NOPB; Manufacturer: National Semiconductor; PackageTopMarking: NSZXTT*LM337*LM; PowerWise: N; CompType: LDO IC; High-Reliability: Y; DatasheetVersion: Jun-2005; PackageVersion: revM, May-2009; PackageReference: M08A; PackageDescription: SOIC Narrow, 4.9 x 3.9 x 1.45mm, 8 Lead, 1.27mm Pitch; RoHS: Y; PinCount: 8; Code_JEDEC: MS-012-AA; Code_IPC: SOIC127P600-8; ComponentLink1Description: Manufacturer URL; ComponentLink1URL: http://www.national.com/; ComponentLink2Description: LM337L Datasheet; ComponentLink2URL: http://www.national.com/ds/LM/LM337L.pdf; ComponentLink3Description: LM337L Web Page; ComponentLink3URL: http://www.national.com/pf/LM/LM337L.html; ComponentLink4Description: M08A Package Page; ComponentLink4URL: http://www.national.com/packaging/folders/m08a.html
footprint M08A_N (SOIC, 8-Leads, Body 4.9x3.9mm, Pitch 1.27mm, IPC Medium Density)
footprint M08A_L (SOIC, 8-Leads, Body 4.9x3.9mm, Pitch 1.27mm, IPC High Density)
footprint M08A_M (SOIC, 8-Leads, Body 4.9x3.9mm, Pitch 1.27mm, IPC Low Density)
pins: 1 OUT (power), 2 IN (power), 3 IN (power), 4 ADJ (in), 5 NC, 6 IN (power), 7 IN (power), 8 NC

## LM337LMX
designator U?
3-Terminal Adjustable Regulator, 8-pin Narrow SOIC; PartNumber: LM337LMX; Manufacturer: National Semiconductor; PackageTopMarking: NSZXTT*LM337*LM; PowerWise: N; CompType: LDO IC; High-Reliability: Y; DatasheetVersion: Jun-2005; PackageVersion: revM, May-2009; PackageReference: M08A; PackageDescription: SOIC Narrow, 4.9 x 3.9 x 1.45mm, 8 Lead, 1.27mm Pitch; RoHS: N; PinCount: 8; Code_JEDEC: MS-012-AA; Code_IPC: SOIC127P600-8; ComponentLink1Description: Manufacturer URL; ComponentLink1URL: http://www.national.com/; ComponentLink2Description: LM337L Datasheet; ComponentLink2URL: http://www.national.com/ds/LM/LM337L.pdf; ComponentLink3Description: LM337L Web Page; ComponentLink3URL: http://www.national.com/pf/LM/LM337L.html; ComponentLink4Description: M08A Package Page; ComponentLink4URL: http://www.national.com/packaging/folders/m08a.html
footprint M08A_N (SOIC, 8-Leads, Body 4.9x3.9mm, Pitch 1.27mm, IPC Medium Density)
footprint M08A_L (SOIC, 8-Leads, Body 4.9x3.9mm, Pitch 1.27mm, IPC High Density)
footprint M08A_M (SOIC, 8-Leads, Body 4.9x3.9mm, Pitch 1.27mm, IPC Low Density)
pins: 1 OUT (power), 2 IN (power), 3 IN (power), 4 ADJ (in), 5 NC, 6 IN (power), 7 IN (power), 8 NC

## LM337LZ
designator U?
3-Terminal Adjustable Regulator, 3-pin TO-92; PartNumber: LM337LZ; Manufacturer: National Semiconductor; PackageTopMarking: NSXYTT*LM337*LZ; PowerWise: N; CompType: LDO IC; High-Reliability: Y; DatasheetVersion: Jun-2005; PackageVersion: revG, Sep-2000; PackageReference: Z03A; PackageDescription: TO-92, Molded, 3 Lead; RoHS: N; PinCount: 3; Code_JEDEC: TO-226-AA; ComponentLink1Description: Manufacturer URL; ComponentLink1URL: http://www.national.com/; ComponentLink2Description: LM337L Datasheet; ComponentLink2URL: http://www.national.com/ds/LM/LM337L.pdf; ComponentLink3Description: LM337L Web Page; ComponentLink3URL: http://www.national.com/pf/LM/LM337L.html; ComponentLink4Description: Z03A Package Page; ComponentLink4URL: http://www.national.com/packaging/folders/z03a.html
footprint Z03A (TO, Flat Index; 3 In-Line, Axial Leads; Body Dia. 5mm; Leads 0.55 x 0.50 mm (max))
pins: 1 ADJ (in), 2 OUT (power), 3 IN (power)

## LM337LZ/NOPB
designator U?
3-Terminal Adjustable Regulator, 3-pin TO-92, Pb-Free; PartNumber: LM337LZ/NOPB; Manufacturer: National Semiconductor; PackageTopMarking: NSXYTT*LM337*LZ; PowerWise: N; CompType: LDO IC; High-Reliability: Y; DatasheetVersion: Jun-2005; PackageVersion: revG, Sep-2000; PackageReference: Z03A; PackageDescription: TO-92, Molded, 3 Lead; RoHS: Y; PinCount: 3; Code_JEDEC: TO-226-AA; ComponentLink1Description: Manufacturer URL; ComponentLink1URL: http://www.national.com/; ComponentLink2Description: LM337L Datasheet; ComponentLink2URL: http://www.national.com/ds/LM/LM337L.pdf; ComponentLink3Description: LM337L Web Page; ComponentLink3URL: http://www.national.com/pf/LM/LM337L.html; ComponentLink4Description: Z03A Package Page; ComponentLink4URL: http://www.national.com/packaging/folders/z03a.html
footprint Z03A (TO, Flat Index; 3 In-Line, Axial Leads; Body Dia. 5mm; Leads 0.55 x 0.50 mm (max))
pins: 1 ADJ (in), 2 OUT (power), 3 IN (power)

## LM337T
designator U?
3-Terminal Adjustable Negative Regulator, 3-pin TO-220; PartNumber: LM337T; Manufacturer: National Semiconductor; PackageTopMarking: NSUZXYTTE#*LM337T P+; PowerWise: N; CompType: LDO IC; High-Reliability: Y; DatasheetVersion: Nov-2004; PackageVersion: revL, Jan-1992; PackageReference: T03B; PackageDescription: TO-220, Molded, 3 Lead, Straight; RoHS: N; PinCount: 3; ComponentLink1Description: Manufacturer URL; ComponentLink1URL: http://www.national.com/; ComponentLink2Description: LM337 Datasheet; ComponentLink2URL: http://www.national.com/ds/LM/LM337.pdf; ComponentLink3Description: LM337 Web Page; ComponentLink3URL: http://www.national.com/pf/LM/LM337.html; ComponentLink4Description: T03B Package Page; ComponentLink4URL: http://www.national.com/packaging/folders/t03b.html
footprint T03B (TO, Thru-Hole, Vertical, Heatsink Mounted; 3 In-Line Leads; Pitch 2.54 mm)
pins: 1 ADJ (in), 2 IN (power), 3 OUT (power)

## LM337T/NOPB
designator U?
3-Terminal Adjustable Negative Regulator, 3-pin TO-220, Pb-Free; PartNumber: LM337T/NOPB; Manufacturer: National Semiconductor; PackageTopMarking: NSUZXYTTE#*LM337T P+; PowerWise: N; CompType: LDO IC; High-Reliability: Y; DatasheetVersion: Nov-2004; PackageVersion: revL, Jan-1992; PackageReference: T03B; PackageDescription: TO-220, Molded, 3 Lead, Straight; RoHS: Y; PinCount: 3; ComponentLink1Description: Manufacturer URL; ComponentLink1URL: http://www.national.com/; ComponentLink2Description: LM337 Datasheet; ComponentLink2URL: http://www.national.com/ds/LM/LM337.pdf; ComponentLink3Description: LM337 Web Page; ComponentLink3URL: http://www.national.com/pf/LM/LM337.html; ComponentLink4Description: T03B Package Page; ComponentLink4URL: http://www.national.com/packaging/folders/t03b.html
footprint T03B (TO, Thru-Hole, Vertical, Heatsink Mounted; 3 In-Line Leads; Pitch 2.54 mm)
pins: 1 ADJ (in), 2 IN (power), 3 OUT (power)

## LM338T
designator U?
5 Amp Adjustable Regulator, 3-pin TO-220; PartNumber: LM338T; Manufacturer: National Semiconductor; PackageTopMarking: NSUZXYTTE#*LM338T P+; PowerWise: N; CompType: LDO IC; High-Reliability: Y; DatasheetVersion: May-1998; PackageVersion: revL, Jan-1992; PackageReference: T03B; PackageDescription: TO-220, Molded, 3 Lead, Straight; RoHS: N; PinCount: 3; ComponentLink1Description: Manufacturer URL; ComponentLink1URL: http://www.national.com/; ComponentLink2Description: LM338 Datasheet; ComponentLink2URL: http://www.national.com/ds/LM/LM338.pdf; ComponentLink3Description: LM338 Web Page; ComponentLink3URL: http://www.national.com/pf/LM/LM338.html; ComponentLink4Description: T03B Package Page; ComponentLink4URL: http://www.national.com/packaging/folders/t03b.html
footprint T03B (TO, Thru-Hole, Vertical, Heatsink Mounted; 3 In-Line Leads; Pitch 2.54 mm)
pins: 1 ADJ (in), 2 OUT (power), 3 IN (power)

## LM338T/NOPB
designator U?
5 Amp Adjustable Regulator, 3-pin TO-220, Pb-Free; PartNumber: LM338T/NOPB; Manufacturer: National Semiconductor; PackageTopMarking: NSUZXYTTE#*LM338T P+; PowerWise: N; CompType: LDO IC; High-Reliability: Y; DatasheetVersion: May-1998; PackageVersion: revL, Jan-1992; PackageReference: T03B; PackageDescription: TO-220, Molded, 3 Lead, Straight; RoHS: Y; PinCount: 3; ComponentLink1Description: Manufacturer URL; ComponentLink1URL: http://www.national.com/; ComponentLink2Description: LM338 Datasheet; ComponentLink2URL: http://www.national.com/ds/LM/LM338.pdf; ComponentLink3Description: LM338 Web Page; ComponentLink3URL: http://www.national.com/pf/LM/LM338.html; ComponentLink4Description: T03B Package Page; ComponentLink4URL: http://www.national.com/packaging/folders/t03b.html
footprint T03B (TO, Thru-Hole, Vertical, Heatsink Mounted; 3 In-Line Leads; Pitch 2.54 mm)
pins: 1 ADJ (in), 2 OUT (power), 3 IN (power)

## LM340AT-5.0
designator U?
Series 3-Terminal Positive Regulators, 3-pin TO-220; PartNumber: LM340AT-5.0; Manufacturer: National Semiconductor; PackageTopMarking: NSUZXYTTE#*LM340AT*5.0 P+; PowerWise: N; CompType: LDO IC; High-Reliability: Y; DatasheetVersion: Jul-2006; PackageVersion: revL, Jan-1992; PackageReference: T03B; PackageDescription: TO-220, Molded, 3 Lead, Straight; RoHS: N; PinCount: 3; ComponentLink1Description: Manufacturer URL; ComponentLink1URL: http://www.national.com/; ComponentLink2Description: LM340 Datasheet; ComponentLink2URL: http://www.national.com/ds/LM/LM340.pdf; ComponentLink3Description: LM340 Web Page; ComponentLink3URL: http://www.national.com/pf/LM/LM340.html; ComponentLink4Description: T03B Package Page; ComponentLink4URL: http://www.national.com/packaging/folders/t03b.html
footprint T03B (TO, Thru-Hole, Vertical, Heatsink Mounted; 3 In-Line Leads; Pitch 2.54 mm)
pins: 1 IN (power), 2 GND (power), 3 OUT (power)

## LM340K-5.0
designator U?
Series 3-Terminal Positive Regulators, 3-pin TO-3; PartNumber: LM340K-5.0; Manufacturer: National Semiconductor; PackageTopMarking: NS*ZXYTTE#*LM340K*-5.0 7805P+; PowerWise: N; CompType: LDO IC; High-Reliability: Y; DatasheetVersion: Jul-2006; PackageVersion: revG, Oct-1991; PackageReference: K02A; PackageDescription: Metal Can (KA) TO-3, 2 Lead; RoHS: N; PinCount: 2; ComponentLink1Description: Manufacturer URL; ComponentLink1URL: http://www.national.com/; ComponentLink2Description: LM340 Datasheet; ComponentLink2URL: http://www.national.com/ds/LM/LM340.pdf; ComponentLink3Description: LM340 Web Page; ComponentLink3URL: http://www.national.com/pf/LM/LM340.html; ComponentLink4Description: K02A Package Page; ComponentLink4URL: http://www.national.com/packaging/folders/k02a.html
footprint K02A (Oval Flange Mount with (2) Offset Leads; Pin Spacing 10.93 mm; Lead Dia. 1.09 mm (max))
pins: 1 IN (power), 2 OUT (power), 3 GND (power)

## LM340LAZ-5.0
designator U?
Series 3-Terminal Positive Regulators, 3-pin TO-92; PartNumber: LM340LAZ-5.0; Manufacturer: National Semiconductor; PackageTopMarking: NSXYTT*340LA*Z-5.0; PowerWise: N; CompType: LDO IC; High-Reliability: Y; DatasheetVersion: Jul-2005; PackageVersion: revG, Sep-2000; PackageReference: Z03A; PackageDescription: TO-92, Molded, 3 Lead; RoHS: N; PinCount: 3; Code_JEDEC: TO-226-AA; ComponentLink1Description: Manufacturer URL; ComponentLink1URL: http://www.national.com/; ComponentLink2Description: LM340L Datasheet; ComponentLink2URL: http://www.national.com/ds/LM/LM340L.pdf; ComponentLink3Description: LM340L Web Page; ComponentLink3URL: http://www.national.com/pf/LM/LM340L.html; ComponentLink4Description: Z03A Package Page; ComponentLink4URL: http://www.national.com/packaging/folders/z03a.html
footprint Z03A (TO, Flat Index; 3 In-Line, Axial Leads; Body Dia. 5mm; Leads 0.55 x 0.50 mm (max))
pins: 1 OUT (power), 2 GND (power), 3 IN (power)

## LM340LAZ-5.0/NOPB
designator U?
Series 3-Terminal Positive Regulators, 3-pin TO-92, Pb-Free; PartNumber: LM340LAZ-5.0/NOPB; Manufacturer: National Semiconductor; PackageTopMarking: NSXYTT*340LA*Z-5.0; PowerWise: N; CompType: LDO IC; High-Reliability: Y; DatasheetVersion: Jul-2005; PackageVersion: revG, Sep-2000; PackageReference: Z03A; PackageDescription: TO-92, Molded, 3 Lead; RoHS: Y; PinCount: 3; Code_JEDEC: TO-226-AA; ComponentLink1Description: Manufacturer URL; ComponentLink1URL: http://www.national.com/; ComponentLink2Description: LM340L Datasheet; ComponentLink2URL: http://www.national.com/ds/LM/LM340L.pdf; ComponentLink3Description: LM340L Web Page; ComponentLink3URL: http://www.national.com/pf/LM/LM340L.html; ComponentLink4Description: Z03A Package Page; ComponentLink4URL: http://www.national.com/packaging/folders/z03a.html
footprint Z03A (TO, Flat Index; 3 In-Line, Axial Leads; Body Dia. 5mm; Leads 0.55 x 0.50 mm (max))
pins: 1 OUT (power), 2 GND (power), 3 IN (power)